# Altium schematic symbol library SCH - DIODES - TVS - WE 82400102.Schlib: 1 symbol
Pins are listed as number, name and electrical type; pins without a type are passive.

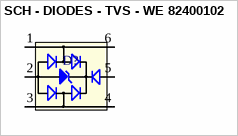
[diagram p0: symbol SCH - DIODES - TVS - WE 82400102]

## SCH - DIODES - TVS - WE 82400102
designator D?
footprint SOT23_6L (SOT23, 6-Leads, Body 3.60x2.9mm, Pitch 0.95mm)
pins: 1 I/O1, 2 GND, 3 I/O2, 4 I/O2, 5 VDD, 6 I/O1